# Altium schematic symbol library Schematic Diagrams.SchLib: 322 symbols (part 8 of 8)
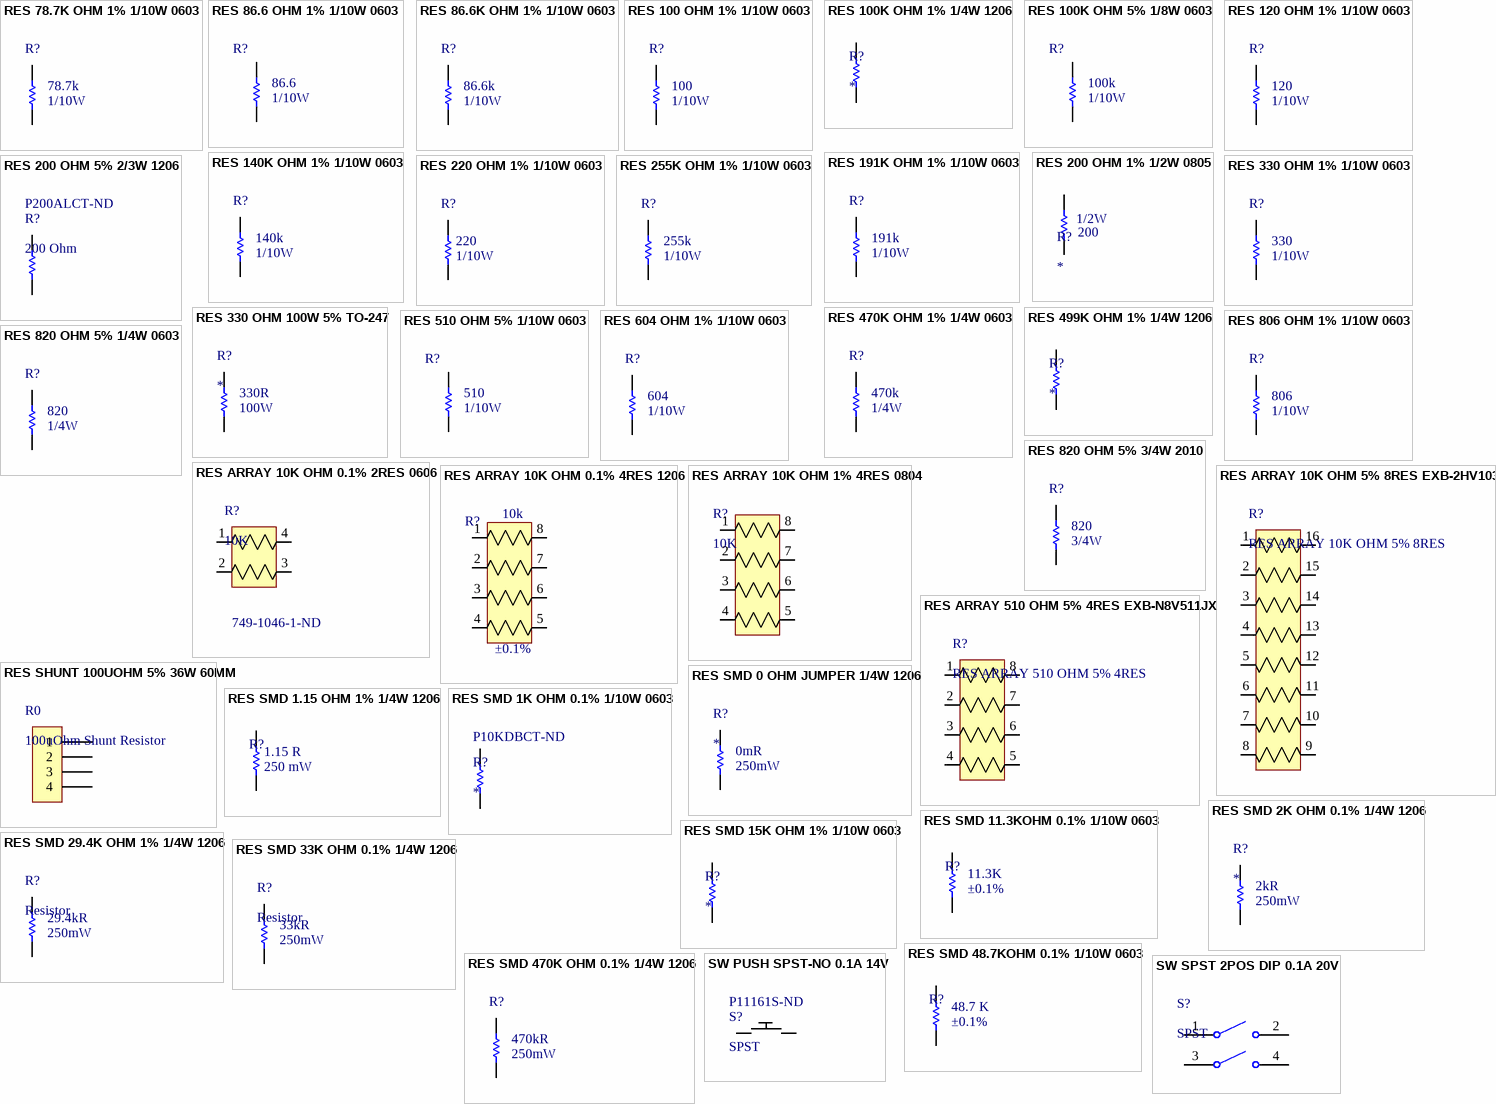
[diagram p17: symbols RES 78.7K OHM 1% 1/10W 0603 to SW SPST 2POS DIP 0.1A 20V]

## RES SMD 1K OHM 0.1% 1/10W 0603
designator R?  Supplier Part Number 1: P10KDBCT-ND
1 kOhms ±0.1% 0.1W, 1/10W Chip Resistor 0603 (1608 Metric) Automotive AEC-Q200 Thin Film; Manufacturer: Panasonic; Manufacturer Part Number: ERA3AEB103V; Resistance: 10kR; Power Rating: 100mW; Voltage Rating: 75V; Temperature Coefficient: 25ppm/°C; ComponentLink1Description: Digikey; ComponentLink1URL: https://www.digikey.ca/product-detail/en/panasonic-electronic-components/ERA-3AEB102V/P1.0KDBCT-ND/1466052; Supplier 1: Digi-Key; RoHS: Yes; Stock 1: 2747820; Pricing 1: 1 = 0.35000, 10 = 0.30000, 100 = 0.11720, 1000 = 0.04906, 2500 = 0.04498 (USD); Mount: Surface Mount; Case/Package: 0603; Number of Pins: 2; Case Code (Metric): 1608; Case Code (Imperial): 0603; Contact Plating: Tin; Min Operating Temperature: -55°C; Max Operating Temperature: 155°C; Packaging: Tape and Reel; Tolerance: 0.1%; Package Quantity: 5000; Composition: Metal Film,Thin Film; Number of Terminations: 2; Termination: SMD/SMT; Military Standard: Not; Max Power Dissipation: 100mW; Voltage Rating (DC): 75V; Length: 1.6mm; Height: 0.45mm; Width: 0.8mm; Depth: 0.8mm; Radiation Hardening: No; REACH SVHC: No SVHC; Lead Free: Lead Free; ComponentLink2URL: http://www.farnell.com/datasheets/485442.pdf; ComponentLink2Description: http://www.farnell.com/datasheets/485442.pdf; ComponentLink3URL: http://industrial.panasonic.com/www-data/pdf/AOA0000/AOA0000CE26.pdf; ComponentLink3Description: http://industrial.panasonic.com/www-data/pdf/AOA0000/AOA0000CE26.pdf; ComponentLink4URL: http://www.farnell.com/datasheets/2052875.pdf; ComponentLink4Description: http://www.farnell.com/datasheets/2052875.pdf; ComponentLink5URL: http://www.farnell.com/datasheets/1776116.pdf; ComponentLink5Description: http://www.farnell.com/datasheets/1776116.pdf; ComponentLink6URL: http://uk.rs-online.com/webdocs/148c/0900766b8148c4ab.pdf; ComponentLink6Description: http://uk.rs-online.com/webdocs/148c/0900766b8148c4ab.pdf; ComponentLink7URL: http://www.farnell.com/datasheets/2059650.pdf; ComponentLink7Description: http://www.farnell.com/datasheets/2059650.pdf; ComponentLink8URL: http://www.produktinfo.conrad.com/datenblaetter/450000-474999/451250-da-01-en-WIDERSTAND_0603_ERA.pdf; ComponentLink8Description: http://www.produktinfo.conrad.com/datenblaetter/450000-474999/451250-da-01-en-WIDERSTAND_0603_ERA.pdf
footprint RES, 0603 (Chip Resistor, 2-Leads, Body 1.60x0.80mm, IPC Medium Density)
pins: 1, 2

## RES SMD 2K OHM 0.1% 1/4W 1206
designator R?  Max Power Dissipation: 250mW  Resistance: 2kR
2 kOhms ±0.1% 0.25W, 1/4W Chip Resistor 1206 (3216 Metric) Automotive AEC-Q200 Thin Film; Manufacturer: Panasonic; Manufacturer Part Number: ERA-8AEB202V; Voltage Rating: 150V; Temperature Coefficient: 25ppm/°C; Supplier 1: Digi-Key; Stock 1: 43293; Pricing 1: 1=0.66, 10=0.474, 100=0.2465, 1000=0.13276, 2500=0.13095 (USD); Mount: Surface Mount; Case/Package: 1206; Number of Pins: 2; Weight: 0.000571oz; Case Code (Metric): 3216; Case Code (Imperial): 1206; Contact Plating: Tin; Min Operating Temperature: -55°C; Max Operating Temperature: 155°C; Power Rating: 250mW; Tolerance: 0.1%; Packaging: Tape and Reel; Package Quantity: 5000; Composition: Metal Film,Thin Film; Number of Terminations: 2; Termination: SMD/SMT; Military Standard: Not; Voltage Rating (DC): 150V; Length: 3.2mm; Height: 0.6mm; Width: 0.063inch; Depth: 1.6mm; Radiation Hardening: No; REACH SVHC: No SVHC; Lead Free: Lead Free; ComponentLink1URL: https://datasheet.ciiva.com/43458/391390-43458070.pdf; ComponentLink1Description: https://datasheet.ciiva.com/43458/391390-43458070.pdf; ComponentLink2URL: https://datasheet.ciiva.com/48529/era-eng-tds-48529591.pdf; ComponentLink2Description: https://datasheet.ciiva.com/48529/era-eng-tds-48529591.pdf; ComponentLink3URL: https://datasheet.ciiva.com/6082/391390-6082060.pdf; ComponentLink3Description: https://datasheet.ciiva.com/6082/391390-6082060.pdf; ComponentLink4URL: https://datasheet.ciiva.com/17214/aoa0000ce26-17214381.pdf; ComponentLink4Description: https://datasheet.ciiva.com/17214/aoa0000ce26-17214381.pdf; ComponentLink5URL: https://datasheet.ciiva.com/9197/aoa0000ce26-9197582.pdf; ComponentLink5Description: https://datasheet.ciiva.com/9197/aoa0000ce26-9197582.pdf; Supplier Part Number 1: P2.0KBCCT-ND
footprint RES 1206 (Chip Resistor, 2-Leads, Body 3.20x1.60mm, IPC Medium Density)
pins: 1, 2

## RES SMD 11.3KOHM 0.1% 1/10W 0603
designator R?  value 11.3K  Tolerance: ±0.1%
11.3 kOhms ±0.1% 0.1W, 1/10W Chip Resistor 0603 (1608 Metric) Automotive AEC-Q200 Thin Film; Manufacturer: Panasonic Electronic Components; Temperature Coefficient: ±25ppm/°C; Series: ERA-3A; Packaging: Cut Tape (CT); Part Status: Active; Resistance: 11.3 kOhms; Power (Watts): 0.1W, 1/10W; Composition: Thin Film; Features: Automotive AEC-Q200; Operating Temperature: -55°C ~ 155°C; Package / Case: 0603 (1608 Metric); Supplier Device Package: 0603; Size / Dimension: 0.063" L x 0.031" W (1.60mm x 0.80mm); Height - Seated (Max): 0.022" (0.55mm); Number of Terminations: 2; Supplier 1: Digi-Key; Supplier Part Number 1: P11.3KDBCT-ND
footprint RES, 0603 (Chip Resistor, 2-Leads, Body 1.60x0.80mm, IPC Medium Density)
pins: 1, 2

## RES SMD 15K OHM 1% 1/10W 0603
designator R?
15 kOhms ±1% 0.1W, 1/10W Chip Resistor 0603 (1608 Metric) Moisture Resistant Thick Film; Max Power Dissipation: 100mW; Resistance: 15kR; Temperature Coefficient: 100ppm/°C; Voltage Rating: 50V; ComponentLink1Description: Digikey; ComponentLink1URL: https://www.digikey.ca/product-detail/en/yageo/RC0603FR-0715KL/311-15.0KHRCT-ND/729900; Case Code (Imperial): 0603; Case Code (Metric): 1608; Case/Package: 0603; Composition: Thick Film; Depth: 0.8mm; Features: Moisture Resistant; Height: 0.022inch; Lead Free: Lead Free; Length: 1.6mm; Max Operating Temperature: 155°C; Military Standard: Not; Min Operating Temperature: -55°C; Number of Pins: 2; Number of Terminations: 2; Package Quantity: 1; Packaging: Tape and Reel; Power Rating: 100mW; REACH SVHC: Unknown; Termination: SMD/SMT; Tolerance: 1%; Voltage Rating (DC): 50V; Width: 0.031inch
footprint RES, 0603 (Chip Resistor, 2-Leads, Body 1.60x0.80mm, IPC Medium Density)
pins: 1, 2

## RES SMD 29.4K OHM 1% 1/4W 1206
designator R?, comment Resistor  Max Power Dissipation: 250mW  Resistance: 29.4kR
29.4 kOhms ±1% 0.25W, 1/4W Chip Resistor 1206 (3216 Metric) Automotive AEC-Q200 Thick Film; Manufacturer: Panasonic; Manufacturer Part Number: ERJ-8ENF2942V; Voltage Rating: 200V; Temperature Coefficient: 100ppm/°C; Supplier 1: Digi-Key; Stock 1: 24502; Pricing 1: 1=0.11, 10=0.097, 100=0.0373, 1000=0.01641, 2500=0.01417 (USD); Mount: Surface Mount; Case/Package: 1206; Weight: 0.000571oz; Case Code (Metric): 3216; Case Code (Imperial): 1206; Contact Plating: Tin; Min Operating Temperature: -55°C; Max Operating Temperature: 155°C; Packaging: Tape and Reel; Power Rating: 250mW; Tolerance: 1%; Package Quantity: 1; Composition: Thick Film; Number of Terminations: 2; Voltage Rating (DC): 200V; Termination: SMD/SMT; Military Standard: Not; Length: 3.2mm; Height: 0.028inch; Width: 0.063inch; Depth: 1.6mm; REACH SVHC: No SVHC; ComponentLink1URL: https://datasheet.ciiva.com/7861/426256-7861912.pdf; ComponentLink1Description: https://datasheet.ciiva.com/7861/426256-7861912.pdf; ComponentLink2URL: https://datasheet.ciiva.com/24126/aoa0000ce2-24126731.pdf; ComponentLink2Description: https://datasheet.ciiva.com/24126/aoa0000ce2-24126731.pdf; ComponentLink3URL: https://datasheet.ciiva.com/6159/426256-6159628.pdf; ComponentLink3Description: https://datasheet.ciiva.com/6159/426256-6159628.pdf; ComponentLink4URL: https://datasheet.ciiva.com/9191/aoa0000ce2-9191007.pdf; ComponentLink4Description: https://datasheet.ciiva.com/9191/aoa0000ce2-9191007.pdf; Supplier Part Number 1: P29.4KFCT-ND
footprint RES 1206 (Chip Resistor, 2-Leads, Body 3.20x1.60mm, IPC Medium Density)
pins: 1, 2

## RES SMD 33K OHM 0.1% 1/4W 1206
designator R?, comment Resistor  Resistance: 33kR  Max Power Dissipation: 250mW
33 kOhms ±0.1% 0.25W, 1/4W Chip Resistor 1206 (3216 Metric) Thin Film; Manufacturer: Yageo; Manufacturer Part Number: RT1206BRD0733KL; Voltage Rating: 200V; Temperature Coefficient: 25ppm/°C; Supplier 1: Digi-Key; Stock 1: 13446; Pricing 1: 1=0.68, 10=0.523, 100=0.22, 1000=0.12137, 2500=0.11378 (USD); Case/Package: 1206; Case Code (Metric): 3216; Case Code (Imperial): 1206; Contact Plating: Tin,Matte; Min Operating Temperature: -55°C; Max Operating Temperature: 125°C; Power Rating: 250mW; Tolerance: 0.1%; Packaging: Tape and Reel; Package Quantity: 5000; Termination: SMD/SMT; Composition: Thin Film; Number of Terminations: 2; Military Standard: Not; Voltage Rating (DC): 200V; Length: 0.122inch; Height: 0.026inch; Width: 0.063inch; Depth: 1.6mm; Radiation Hardening: No; Lead Free: Lead Free; ComponentLink1URL: https://datasheet.ciiva.com/2587/pyu-rt-1-to-0-05-rohs-l-4-2587636.pdf; ComponentLink1Description: https://datasheet.ciiva.com/2587/pyu-rt-1-to-0-05-rohs-l-4-2587636.pdf; ComponentLink2URL: https://datasheet.ciiva.com/46634/pyu-rt-1-to-0-05-rohs-l-5-46634965.pdf; ComponentLink2Description: https://datasheet.ciiva.com/46634/pyu-rt-1-to-0-05-rohs-l-5-46634965.pdf; Supplier Part Number 1: YAG2038CT-ND
footprint RES 1206 (Chip Resistor, 2-Leads, Body 3.20x1.60mm, IPC Medium Density)
pins: 1, 2

## RES SMD 48.7KOHM 0.1% 1/10W 0603
designator R?  value 48.7 K  Tolerance: ±0.1%
48.7 kOhms ±0.1% 0.1W, 1/10W Chip Resistor 0603 (1608 Metric) Automotive AEC-Q200 Thin Film; Manufacturer: Panasonic Electronic Components; Categories: Resistors; Temperature Coefficient: ±25ppm/°C; ComponentLink1Description: https://industrial.panasonic.com/cdbs/www-data/pdf/RDM0000/AOA0000C307.pdf; ComponentLink1URL: https://industrial.panasonic.com/cdbs/www-data/pdf/RDM0000/AOA0000C307.pdf; Series: ERA-3A; Packaging: Cut Tape (CT); Part Status: Active; Resistance: 48.7 kOhms; Power (Watts): 0.1W, 1/10W; Composition: Thin Film; Features: Automotive AEC-Q200; Operating Temperature: -55°C ~ 155°C; Package / Case: 0603 (1608 Metric); Supplier Device: Package 0603; Size / Dimension: 0.063" L x 0.031" W (1.60mm x 0.80mm); Height - Seated (Max): 0.022" (0.55mm); Number of Terminations: 2; Supplier 1: Digi-Key; Supplier Part Number 1: P4.87KDBCT-ND
footprint RES, 0603 (Chip Resistor, 2-Leads, Body 1.60x0.80mm, IPC Medium Density)
pins: 1, 2

## RES SMD 470K OHM 0.1% 1/4W 1206
designator R?, comment Max Power Dissipation: 250mW  Resistance: 470kR  (hidden comment: RESISTOR)
470 kOhms ±0.1% 0.25W, 1/4W Chip Resistor 1206 (3216 Metric) Anti-Sulfur, Automotive AEC-Q200 Thin Film; Manufacturer: Susumu; Manufacturer Part Number: RG3216P-4703-B-T1; Power Rating: 125mW; Voltage Rating: 150V; Temperature Coefficient: 25ppm/°C; Voltage Rating (DC): 200V; Supplier 1: Digi-Key; Stock 1: 2986; Pricing 1: 1=0.66, 10=0.474, 100=0.2462 (USD); Case/Package: 1206; Number of Pins: 2; Case Code (Metric): 3216; Case Code (Imperial): 1206; Min Operating Temperature: -55°C; Max Operating Temperature: 155°C; Tolerance: 0.1%; Packaging: Tape and Reel; Package Quantity: 1; Composition: Thin Film; Number of Terminations: 2; Termination: SMD/SMT; Length: 0.126inch; Height: 0.02inch; Width: 0.063inch; Lead Free: Lead Free; ComponentLink1URL: https://datasheet.ciiva.com/2490/rg-rm-rgh-datasheet-2490488.pdf; ComponentLink1Description: https://datasheet.ciiva.com/2490/rg-rm-rgh-datasheet-2490488.pdf; ComponentLink2URL: https://datasheet.ciiva.com/2490/rg-rm-rgh-datasheet-2490489.pdf; ComponentLink2Description: https://datasheet.ciiva.com/2490/rg-rm-rgh-datasheet-2490489.pdf; ComponentLink3URL: https://datasheet.ciiva.com/2490/rg-rm-rgh-datasheet-2490490.pdf; ComponentLink3Description: https://datasheet.ciiva.com/2490/rg-rm-rgh-datasheet-2490490.pdf; ComponentLink4URL: https://datasheet.ciiva.com/12760/rg-rm-rgh-datasheet-12760397.pdf; ComponentLink4Description: https://datasheet.ciiva.com/12760/rg-rm-rgh-datasheet-12760397.pdf; Supplier Part Number 1: RG32P470KBDKR-ND
footprint RES 1206 (Chip Resistor, 2-Leads, Body 3.20x1.60mm, IPC Medium Density)
pins: 1, 2

## SW PUSH SPST-NO 0.1A 14V
designator S?, comment SPST  Supplier Part Number 1: P11161S-ND
Pushbutton Switch SPST-NO Standard Through Hole; Manufacturer: Panasonic; Manufacturer Part Number: ESE20C321; Voltage Rating (DC): 14V; Operating Force: 4N; Current Rating: 100mA; Switch Function: Off-Mom; Actuator Type: Square, Button; ComponentLink1Description: Digikey; ComponentLink1URL: https://www.digikey.ca/product-detail/en/panasonic-electronic-components/ESE-20C321/P11161S-ND/354749; Supplier 1: Digi-Key; RoHS: Yes; Stock 1: 1919; Pricing 1: 1 = 1.17000, 10 = 1.09200, 25 = 1.04040, 50 = 0.98820, 100 = 0.96220, 250 = 0.93620, 500 = 0.88418, 1000 = 0.83216, 5000 = 0.70214 (USD); Mount: Through Hole; Min Operating Temperature: -30°C; Max Operating Temperature: 80°C; Throw Configuration: SPST; Packaging: Bulk; Max Voltage Rating (DC): 14V; Package Quantity: 1200; Contact Current Rating: 100mA; Termination: PC Pin; Orientation: Straight; Radiation Hardening: No; REACH SVHC: No SVHC; Lead Free: Lead Free; ComponentLink2URL: https://datasheet.ciiva.com/46399/1790644-46399477.pdf?src-supplier=Element14; ComponentLink2Description: https://datasheet.ciiva.com/46399/1790644-46399477.pdf?src-supplier=Element14; ComponentLink3URL: https://datasheet.ciiva.com/16437/atu0000ce7-16437878.pdf?src-supplier=Future+Electronics; ComponentLink3Description: https://datasheet.ciiva.com/16437/atu0000ce7-16437878.pdf?src-supplier=Future+Electronics; ComponentLink4URL: https://datasheet.ciiva.com/8663/atu0000ce7-8663607.pdf?src-supplier=Avnet; ComponentLink4Description: https://datasheet.ciiva.com/8663/atu0000ce7-8663607.pdf?src-supplier=Avnet; ComponentLink5URL: https://datasheet.ciiva.com/2869/atu0000ce7-2869467.pdf?src-supplier=Digi-Key; ComponentLink5Description: https://datasheet.ciiva.com/2869/atu0000ce7-2869467.pdf?src-supplier=Digi-Key
footprint SW SPST-NO ESE-20C321 (ESE-20C321)
pins: 1, 2

## SW SPST 2POS DIP 0.1A 20V
designator S?, comment SPST
SWITCH SLIDE DIP SPST 100MA 20V; Manufacturer: CTS Electrocomponents; Manufacturer Part Number: 219-2MST; Voltage Rating: 20VDC; Actuator Type: Slide (Standard); Actuator Level: Raised; Pitch: 0.100" (2.54mm), Full; Washable: Yes; Electrical Life: 2,000 Cycles; Supplier 1: Digi-Key; RoHS: RoHS Compliant; Category: Switches; Stock 1: 444; Pricing 1: 1=0.84, 10=0.818, 25=0.7708, 50=0.7234, 100=0.6921, 250=0.66056, 500=0.59762, 1000=0.55044, 5000=0.44822 (CAD); Packaging: Tube; Part Status: Active; Circuit: SPST; Current Rating: 100mA; Contact Material: Beryllium Copper; Contact Finish: Gold; Height Above Board: 0.170" (4.33mm); Mounting Type: Surface Mount; Termination Style: Gull Wing; Features: Epoxy Sealed Terminals, Tape Seal; Operating Temperature: -55°C ~ 85°C; Body Material: -; Length: 0.258" (6.55mm); Mechanical Life: -; ComponentLink1URL: https://www.ctscorp.com/wp-content/uploads/219.pdf; ComponentLink1Description: https://www.ctscorp.com/wp-content/uploads/219.pdf; Supplier Part Number 1: CT2192MST-ND
footprint SW SPST 2POS DIP 0.1A 20V (Dip Switch SPST 2 Position Surface Mount Slide (Standard) Actuator 100mA 20VDC)
pins: 1, 2, 3, 4

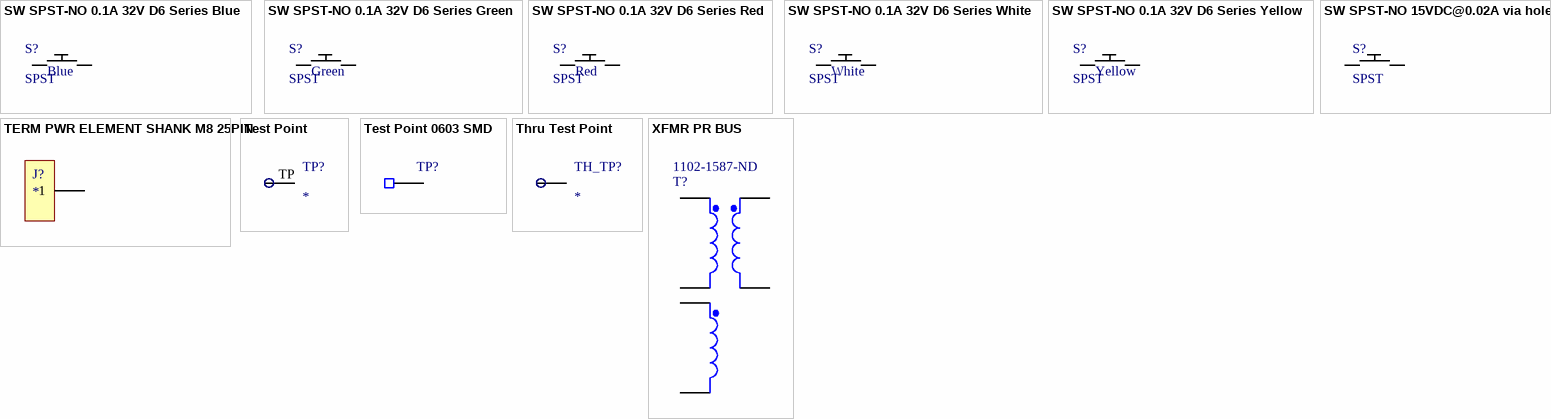
[diagram p10: symbols SW SPST-NO 0.1A 32V D6 Series Blue to XFMR PR BUS]

## SW SPST-NO 0.1A 32V D6 Series Blue
designator S?, comment SPST
Pushbutton Switch SPST-NO Keyswitch Through Hole D6 Series Blue; Manufacturer: C&K; Manufacturer Part Number: D6R60 F1 LFS; Switch Function: Off-Mom; Current Rating: 100mA (DC); Voltage Rating - DC: 32V; Actuator Type: Round, Button; Electrical Life: 250,000 Cycles; Supplier 1: Digi-Key; RoHS: RoHS Compliant; Category: Switches; Stock 1: 3385; Pricing 1: 1=1.73, 10=1.607, 25=1.5308, 50=1.454, 100=1.4158, 250=1.37756, 500=1.30102, 1000=1.22448, 5000=1.03316 (CAD); Packaging: Bulk; Part Status: Active; Type: Keyswitch; Circuit: SPST-NO; Voltage Rating - AC: -; Color - Actuator/Cap: Blue; Illumination Type, Color: -; Illumination Voltage (Nominal): -; Mounting Type: Through Hole; Termination Style: PC Pin; Ingress Protection: -; Features: Tactile Feedback; Panel Cutout Dimensions: -; Operating Temperature: -20°C ~ 85°C; Mechanical Life: -; ComponentLink1URL: http://www.ckswitches.com/media/1341/d6.pdf; ComponentLink1Description: http://www.ckswitches.com/media/1341/d6.pdf; Supplier Part Number 1: 401-1977-ND
footprint SW SPST D6 SERIES BLUE
pins: 1, 2

## SW SPST-NO 0.1A 32V D6 Series Green
designator S?, comment SPST
Pushbutton Switch SPST-NO Keyswitch Through Hole D6 Series Green; Manufacturer: C&K; Manufacturer Part Number: D6R50 F1 LFS; Switch Function: Off-Mom; Current Rating: 100mA (DC); Voltage Rating - DC: 32V; Actuator Type: Round, Button; Electrical Life: 250,000 Cycles; Supplier 1: Digi-Key; RoHS: RoHS Compliant; Category: Switches; Stock 1: 3742; Pricing 1: 1=1.73, 10=1.607, 25=1.5308, 50=1.454, 100=1.4158, 250=1.37756, 500=1.30102, 1000=1.22448, 5000=1.03316 (CAD); Packaging: Bulk; Part Status: Active; Type: Keyswitch; Circuit: SPST-NO; Voltage Rating - AC: -; Color - Actuator/Cap: Green; Illumination Type, Color: -; Illumination Voltage (Nominal): -; Mounting Type: Through Hole; Termination Style: PC Pin; Ingress Protection: -; Features: Tactile Feedback; Panel Cutout Dimensions: -; Operating Temperature: -20°C ~ 85°C; Mechanical Life: -; ComponentLink1URL: http://www.ckswitches.com/media/1341/d6.pdf; ComponentLink1Description: http://www.ckswitches.com/media/1341/d6.pdf; Supplier Part Number 1: 401-1976-ND
footprint SW SPST D6 SERIES GREEN
pins: 1, 2

## SW SPST-NO 0.1A 32V D6 Series Red
designator S?, comment SPST
Pushbutton Switch SPST-NO Keyswitch Through Hole D6 Series Red; Manufacturer: C&K; Manufacturer Part Number: D6R40 F1 LFS; Switch Function: Off-Mom; Current Rating: 100mA (DC); Voltage Rating - DC: 32V; Actuator Type: Round, Button; Electrical Life: 250,000 Cycles; Supplier 1: Digi-Key; RoHS: RoHS Compliant; Category: Switches; Stock 1: 4872; Pricing 1: 1=1.73, 10=1.607, 25=1.5308, 50=1.454, 100=1.4158, 250=1.37756, 500=1.30102, 1000=1.22448, 5000=1.03316 (CAD); Packaging: Bulk; Part Status: Active; Type: Keyswitch; Circuit: SPST-NO; Voltage Rating - AC: -; Color - Actuator/Cap: Red; Illumination Type, Color: -; Illumination Voltage (Nominal): -; Mounting Type: Through Hole; Termination Style: PC Pin; Ingress Protection: -; Features: Tactile Feedback; Panel Cutout Dimensions: -; Operating Temperature: -20°C ~ 85°C; Mechanical Life: -; ComponentLink1URL: http://www.ckswitches.com/media/1341/d6.pdf; ComponentLink1Description: http://www.ckswitches.com/media/1341/d6.pdf; Supplier Part Number 1: 401-1975-ND
footprint SW SPST D6 SERIES RED
pins: 1, 2

## SW SPST-NO 0.1A 32V D6 Series White
designator S?, comment SPST
Pushbutton Switch SPST-NO Keyswitch Through Hole D6 Series White; Manufacturer: C&K; Manufacturer Part Number: D6R00 F2 LFS; Switch Function: Off-Mom; Current Rating: 100mA (DC); Voltage Rating - DC: 32V; Actuator Type: Round, Button; Electrical Life: 250,000 Cycles; Supplier 1: Digi-Key; RoHS: RoHS Compliant; Category: Switches; Stock 1: 6244; Pricing 1: 1=1.64, 10=1.532, 25=1.4584, 50=1.3856, 100=1.3492, 250=1.31272, 500=1.2398, 1000=1.16686, 5000=0.98454 (CAD); Packaging: Bulk; Part Status: Active; Type: Keyswitch; Circuit: SPST-NO; Voltage Rating - AC: -; Color - Actuator/Cap: White; Illumination Type, Color: -; Illumination Voltage (Nominal): -; Mounting Type: Through Hole; Termination Style: PC Pin; Ingress Protection: -; Features: Tactile Feedback; Panel Cutout Dimensions: -; Operating Temperature: -20°C ~ 85°C; Mechanical Life: -; ComponentLink1URL: http://www.ckswitches.com/media/1341/d6.pdf; ComponentLink1Description: http://www.ckswitches.com/media/1341/d6.pdf; Supplier Part Number 1: 401-1989-ND; Supplier 2: Digi-Key; Stock 2: 3742; Pricing 2: 1=1.73, 10=1.607, 25=1.5308, 50=1.454, 100=1.4158, 250=1.37756, 500=1.30102, 1000=1.22448, 5000=1.03316 (CAD); Supplier Part Number 2: 401-1976-ND
footprint SW SPST D6 SERIES WHITE
pins: 1, 2

## SW SPST-NO 0.1A 32V D6 Series Yellow
designator S?, comment SPST
Pushbutton Switch SPST-NO Keyswitch Through Hole D6 Series Yellow; Manufacturer: C&K; Manufacturer Part Number: D6R30 F1 LFS; Switch Function: Off-Mom; Current Rating: 100mA (DC); Voltage Rating - DC: 32V; Actuator Type: Round, Button; Electrical Life: 250,000 Cycles; Supplier 1: Digi-Key; RoHS: RoHS Compliant; Category: Switches; Stock 1: 2814; Pricing 1: 1=1.73, 10=1.607, 25=1.5308, 50=1.454, 100=1.4158, 250=1.37756, 500=1.30102, 1000=1.22448, 5000=1.03316 (CAD); Packaging: Bulk; Part Status: Active; Type: Keyswitch; Circuit: SPST-NO; Voltage Rating - AC: -; Color - Actuator/Cap: Yellow; Illumination Type, Color: -; Illumination Voltage (Nominal): -; Mounting Type: Through Hole; Termination Style: PC Pin; Ingress Protection: -; Features: Tactile Feedback; Panel Cutout Dimensions: -; Operating Temperature: -20°C ~ 85°C; Mechanical Life: -; ComponentLink1URL: http://www.ckswitches.com/media/1341/d6.pdf; ComponentLink1Description: http://www.ckswitches.com/media/1341/d6.pdf; Supplier Part Number 1: 401-1974-ND
footprint SW SPST D6 SERIES YELLOW
pins: 1, 2

## SW SPST-NO 15VDC@0.02A via hole
designator S?, comment SPST
Switch Tactile SPST 6x6x9.5mm 15VDC@0.02A Through Hole; Manufacturer: Panasonic Electronic Components; Manufacturer Part Number: EVQ-PAC09K; Circuit: SPST-NO; Switch Function: Off-Mom; Contact Rating @ Voltage: 0.02A @ 15VDC; Actuator Type: Standard; Actuator Height off PCB, Vertical: 9.50mm; Actuator Orientation: Top Actuated; Outline: 6.00mm x 6.00mm; Illumination: Non-Illuminated; Operating Force: 100gf; Switch Travel: 0.25mm; Mechanical Life: 100,000 Cycles; Supplier 1: Digi-Key; Supplier Part Number 1: P8012S-ND; RoHS: RoHS Compliant; Category: Switches; Stock 1: 30036; Pricing 1: 1=0.31, 10=0.303, 25=0.2932, 50=0.2828, 100=0.2671, 250=0.2514, 500=0.24094, 1000=0.18332, 5000=0.15189 (CAD); Packaging: Bulk; Part Status: Active; Mounting Type: Through Hole; Actuator Length, Right Angle: -; Termination Style: PC Pin; Illumination Type, Color: -; Illumination Voltage (Nominal): -; Ingress Protection: -; Features: -; Actuator Material: -; Operating Temperature: -20°C ~ 70°C; ComponentLink1URL: http://industrial.panasonic.com/cdbs/www-data/pdf/ATK0000/ATK0000CE10.pdf; ComponentLink1Description: http://industrial.panasonic.com/cdbs/www-data/pdf/ATK0000/ATK0000CE10.pdf
footprint SW SPST-NO 6x6mm Via Hole
pins: 1, 2

## TERM PWR ELEMENT SHANK M8 25PIN
designator J?
25 Pin Shank Terminal M8 Through Hole; Manufacturer Part Number 1: 7460719; Manufacturer 1: Wurth Electronics Inc.; Current Rating (Amps): 250A; Supplier 1: Digi-Key; Supplier Part Number 1: 732-3219-ND; Terminal Type: Shank Terminal; Screw Size: M8; Termination: Press-Fit; Number of Pins: 25
footprint TERM PWR ELEMENT SHANK M8 25PIN (25 Pin Shank Terminal M8 Through Hole)
pins: 1

## Test Point
designator TP?  (no BOM)
footprint Test Point
pins: TP 1

## Test Point 0603 SMD
designator TP?  (value not drawn)
Manufacturer 1: TE Connectivity; Manufacturer Part Number 1: 1625854-3; Description 1: Thick Film Resistors - SMD 2000; Resistance: 0mR; Supplier 1: Digi-Key; Supplier Part Number 1: A106145CT-ND; Stock 1: 212628; Pricing 1: 1=0.22, 10=0.211, 25=0.18, 50=0.1574, 100=0.1462, 250=0.12932, 500=0.12368, 1000=0.1012 (USD); Mount: Surface Mount; Case/Package: 0603; Colour: Natural; Case Code (Imperial): 0603; Case Code (Metric): 1608; Min Operating Temperature: -55°C; Max Operating Temperature: 125°C; Packaging: Tape and Reel; Termination: SMD/SMT; Package Quantity: 2000; Military Standard: Not; Length: 1.6mm; Height: 1.15mm; Width: 0.8mm; Depth: 0.8mm; Radiation Hardening: No; ComponentLink1URL: https://datasheet.ciiva.com/30100/1773266-a-30100967.pdf; ComponentLink1Description: https://datasheet.ciiva.com/30100/1773266-a-30100967.pdf; ComponentLink2URL: https://datasheet.ciiva.com/8914/eng-ds-1773266-a-8914634.pdf; ComponentLink2Description: https://datasheet.ciiva.com/8914/eng-ds-1773266-a-8914634.pdf; ComponentLink3URL: https://datasheet.ciiva.com/6439/eng-ds-1773266-a-6439163.pdf; ComponentLink3Description: https://datasheet.ciiva.com/6439/eng-ds-1773266-a-6439163.pdf; ComponentLink4URL: https://datasheet.ciiva.com/6439/eng-ds-1773266-a-6439164.pdf; ComponentLink4Description: https://datasheet.ciiva.com/6439/eng-ds-1773266-a-6439164.pdf; ComponentLink5URL: https://datasheet.ciiva.com/6439/eng-ds-1773266-a-6439165.pdf; ComponentLink5Description: https://datasheet.ciiva.com/6439/eng-ds-1773266-a-6439165.pdf
footprint TEST POINT 0603 SMD
pins: 1

## Thru Test Point
designator TH_TP?
footprint Thru Test Point
pins: TH_TP 1

## XFMR PR BUS
designator T?, comment Supplier Part Number 1: 1102-1587-ND  (hidden comment: PR BUS)
Transformer for PR bus on Vicor DC-DC; Manufacturer: Vicor Corporation; Manufacturer Part Number: 29768; For Use With/Related Products: VICOR Maxi, Mini, Micro-Sized Modules; Supplier 1: Digi-Key; RoHS: RoHS Compliant; Category: Power Supplies - Board Mount; Stock 1: 2198; Pricing 1: 1=15.2, 10=13.82, 25=12.7844, 100=11.7476, 250=10.711, 500=10.01996, 1000=9.19073 (CAD); Part Status: Active; Accessory Type: Transformer; ComponentLink1URL: http://asp.vicorpower.com/CADPDF/899N5I.PDF; ComponentLink1Description: http://asp.vicorpower.com/CADPDF/899N5I.PDF
footprint XFMR PR BUS
pins: 1 Pri+, 2 Pri-, 3 Sec2+, 4 Sec2-, 5 Sec1+, 6 Sec1-